# Altium integrated library C3216X5R1A107M160AC.IntLib: 1 symbol
Pins are listed as number, name and electrical type; pins without a type are passive.

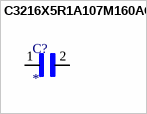
[diagram p0: symbol C3216X5R1A107M160AC]

## C3216X5R1A107M160AC
designator C?
100 ÂµF Â±20% 10V Ceramic Capacitor X5R 1206 (3216 Metric); MF: TDK; MP: C3216X5R1A107M160AC; Package: 3216 TDK; Digi-Key_Part_Number: 445-6007-1-ND; Check_prices: https://www.snapeda.com/parts/C3216X5R1A107M160AC/TDK/view-part/?ref=eda; Value: *; SnapEDA_Link: https://www.snapeda.com/parts/C3216X5R1A107M160AC/TDK/view-part/?ref=snap; Purchase-URL: https://pricing.snapeda.com/search/part/C3216X5R1A107M160AC/?ref=eda
footprint CAPC3216X190N
pins: 1, 2